# Altium schematic symbol library CAMERON.SchLib: 73 symbols
Pins are listed as number, name and electrical type; pins without a type are passive.

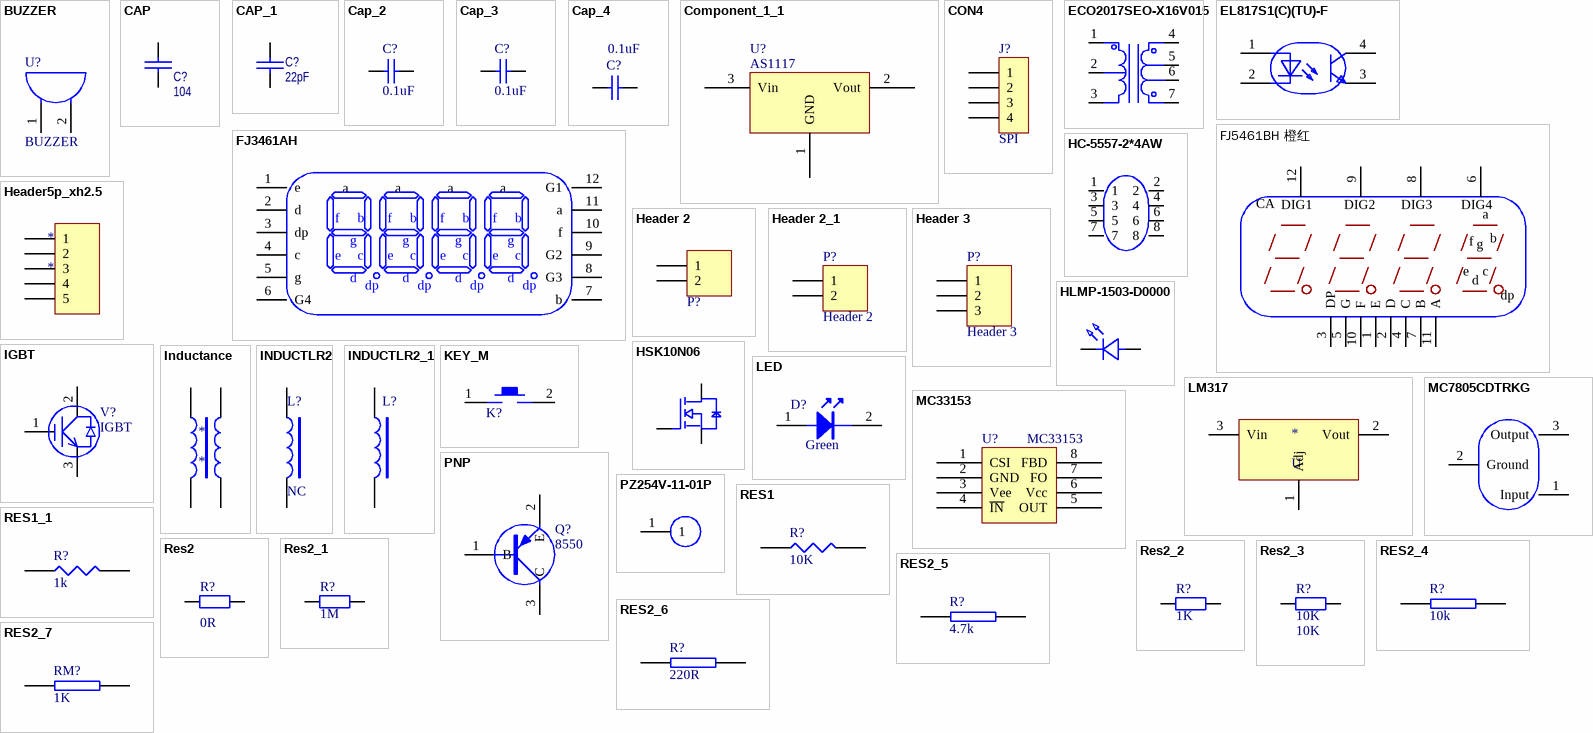
[diagram p0: symbols BUZZER to RES2_7]

## BUZZER
designator U?
footprint BUZZ-7.6/12 (工制单位)
pins: 1 A, 2 B
2 alternate drawings of the same symbol

## CAP
designator C?, comment 104
Capacitor
footprint 0805C
pins: 1, 2
2 alternate drawings of the same symbol

## CAP_1
designator C?, comment 22pF
Capacitor
footprint 0805C
pins: 1, 2
2 alternate drawings of the same symbol

## Cap_2
designator C?, comment value 0.1uF  (hidden comment: 104P)
Capacitor; Published: 8-Jun-2000; LatestRevisionDate: 17-Jul-2002; LatestRevisionNote: Re-released for DXP Platform.; PackageReference: RAD-0.3; Publisher: Altium Limited; PackageDescription: Radial Cap, Thru-Hole; 2 Leads; 0.3 in Pin Spacing
footprint 0805C
pins: 1, 2
2 alternate drawings of the same symbol

## Cap_3
designator C?, comment value 0.1uF  (hidden comment: Cap)
Capacitor; Published: 8-Jun-2000; LatestRevisionDate: 17-Jul-2002; LatestRevisionNote: Re-released for DXP Platform.; PackageReference: RAD-0.3; Publisher: Altium Limited; PackageDescription: Radial Cap, Thru-Hole; 2 Leads; 0.3 in Pin Spacing
footprint 0805C
pins: 1, 2
2 alternate drawings of the same symbol

## Cap_4
designator C?, comment value 0.1uF  (hidden comment: 470uF/35V)
Capacitor; Published: 8-Jun-2000; LatestRevisionDate: 17-Jul-2002; LatestRevisionNote: Re-released for DXP Platform.; PackageReference: RAD-0.3; Publisher: Altium Limited; PackageDescription: Radial Cap, Thru-Hole; 2 Leads; 0.3 in Pin Spacing
footprint 0805C
pins: 1, 2
2 alternate drawings of the same symbol

## Component_1_1
designator U?, comment AS1117
footprint 811733
footprint SOT_3
pins: 1 GND, 2 Vout, 3 Vin
2 alternate drawings of the same symbol

## CON4
designator J?, comment SPI
Connector
footprint XH-4P-2.5-4DIP (CON250P580W100D50S-4DIP)
pins: 1, 2, 3, 4
2 alternate drawings of the same symbol

## ECO2017SEO-X16V015
designator USB?  (value not drawn)
Manufacturer: TDK; Add into BOM: yes; Primary Winding: 三路; Secondary Winding: 两路; Symbol: ECO2017SEO-X16V015; Device: ECO2017SEO-X16V015; LCSC Part Name: ECO2017SEO-X16V015; Supplier Part: C2762803; Manufacturer Part: ECO2017SEO-X16V015; Supplier Footprint: 插件; JLCPCB Part Class: Extended Part; Datasheet: https://atta.szlcsc.com/upload/public/pdf/source/20210330/C2762803_0539F2D7383AC707985FED84B39ED265.pdf; Supplier: LCSC; Convert to PCB: yes; Primary Side Voltage: -; Secondary Side Voltage: -; Output Current: -; Power: -; Isolation Voltage: -
footprint XFMR-TH_ECO2017SEO-X16V015
pins: 1 9, 2 8, 3 10, 4 5, 5 4, 6 2, 7 1

## EL817S1(C)(TU)-F
designator U?  (value not drawn)
Manufacturer: EVERLIGHT(亿光); Add into BOM: yes; Input voltage type: DC; Output Type: 光电三极管; Forward Voltage: 1.2V; Output Current: 50mA; Isolation Voltage(rms): 5kV; Reverse Voltage: 6V; Load Voltage: 35V; Number of Outputs: 1; Collector-Emitter Saturation Voltage (Vce(sat)@Ic,IF): 100mV@1mA,20mA; Rise time: 18us@2mA,100Ω; Symbol: EL817S1(C)(TU)-F; Device: EL817S1(C)(TU)-F; LCSC Part Name: DC输入 隔离电压(rms):5000V; Supplier Part: C106900; Manufacturer Part: EL817S1(C)(TU)-F; Supplier Footprint: SMD-4P; JLCPCB Part Class: Basic Part; Datasheet: https://atta.szlcsc.com/upload/public/pdf/source/20181026/C323798_FBCE14484708FE0807B9A090D624C4F0.pdf; Supplier: LCSC; Convert to PCB: yes; Fall time: 18us@2mA,100Ω; Operating Temperature: -55℃~+110℃
footprint OPTO-SMD-4_L4.6-W6.5-P2.54-LS10.3-TL
pins: 1 AN, 2 CAT, 3 EM, 4 COL

## FJ3461AH
designator LED?  (value not drawn)
Manufacturer: 志浩; Add into BOM: yes; Number of Characters: 4位; Module Size: 30mmx14mmx7.2mm; Luminous Color: 红色; LED Polarity: 共阴极; Digit/Alpha Size(inch): 0.36; Symbol: FJ3461AH; Device: FJ3461AH; LCSC Part Name: 4位0.36英寸红色数码管 共阴极; Supplier Part: C10708; Manufacturer Part: FJ3461AH; Supplier Footprint: 插件; JLCPCB Part Class: Extended Part; Datasheet: https://atta.szlcsc.com/upload/public/pdf/source/20121231/1457706574766.pdf; Supplier: LCSC; Convert to PCB: yes; Display Type: -; Power Dissipation: -
footprint LED-SEG-TH_12P-L30.0-W14.0-P2.54-S10.16-BL
pins: 1 e, 2 d, 3 dp, 4 c, 5 g, 6 G4, 7 b, 8 G3, 9 G2, 10 f, 11 a, 12 G1

## FJ5461BH 橙红
designator LED?  (value not drawn)
Manufacturer: 志浩; Symbol: FJ5461BH-red-orange; Add into BOM: yes; Number of Characters: 4位; Luminous Color: 红色; LED Polarity: 共阳极; Digit/Alpha Size(inch): 0.56; Device: FJ5461BH 橙红; LCSC Part Name: 4位0.56英寸红色数码管 共阳极; Supplier Part: C10713; Manufacturer Part: FJ5461BH 橙红; Supplier Footprint: 插件; JLCPCB Part Class: Extended Part; Datasheet: https://atta.szlcsc.com/upload/public/pdf/source/20121231/1457706574845.pdf; Supplier: LCSC; Convert to PCB: yes
footprint LED-SEG-TH_FJ5461AH
pins: 1 E, 2 D, 3 DP, 4 C, 5 G, 6 DIG4, 7 B, 8 DIG3, 9 DIG2, 10 F, 11 A, 12 DIG1
text: CA; a; f; b; g; e; c; d; dp

## HC-5557-2*4AW
designator H?  (value not drawn)
Manufacturer: HCTL(华灿天禄); Add into BOM: yes; Pins Structure: 2x4P; Pitch: 4.2mm; Number of PINs Per Row: 4; Current Rating (Max): 9A; Symbol: HC-5557-2*4AW; Device: HC-5557-2*4AW; LCSC Part Name: 2x4P 间距:4.2mm 弯插; Supplier Part: C2845789; Manufacturer Part: HC-5557-2*4AW; Supplier Footprint: 弯插,P=4.2mm; JLCPCB Part Class: Extended Part; Datasheet: https://atta.szlcsc.com/upload/public/pdf/source/20230620/3AA4118B2C2E81189EA8FE45B17A7E9B.pdf; Supplier: LCSC; Convert to PCB: yes; Mounting Style: 弯插; Reference Series: -; Number of Pins: 8P; Number of Rows: 2; Row Spacing: 4.2mm; Contact Material: 黄铜; Contact Plating: 锡; Operating Temperature Range: -25℃~+85℃
footprint CONN-TH_8P-P4.20_5557-2X4AW
pins: 1, 2, 3, 4, 5, 6, 7, 8

## Header5p_xh2.5
designator *
pins: 1, 2, 3, 4, 5

## Header 2
designator P?, comment VREF_SEL  (value not drawn)
Header, 2-Pin; LatestRevisionDate: 17-Jul-2002; LatestRevisionNote: Re-released for DXP Platform.; Publisher: Altium Limited
footprint HDR1X2
footprint XH-2P-2.5
pins: 1, 2
2 alternate drawings of the same symbol

## Header 2_1
designator P?, comment Header 2
Header, 2-Pin; LatestRevisionDate: 17-Jul-2002; LatestRevisionNote: Re-released for DXP Platform.; Publisher: Altium Limited
footprint XH-2P-2.5
pins: 1, 2
2 alternate drawings of the same symbol

## Header 3
designator P?
Header, 3-Pin; LatestRevisionDate: 17-Jul-2002; LatestRevisionNote: Re-released for DXP Platform.; Publisher: Altium Limited
footprint XH-3P-2.5
footprint XH-3P-2.5-3DIP
pins: 1, 2, 3
2 alternate drawings of the same symbol

## HLMP-1503-D0000
designator U?  (value not drawn)
Manufacturer: Broadcom/AVAGO(安华高); Add into BOM: yes; Symbol: HLMP-1503-D0000; Device: HLMP-1503-D0000; LCSC Part Name: HLMP-1503-D0000; Supplier Part: C6795839; Manufacturer Part: HLMP-1503-D0000; Supplier Footprint: 插件; JLCPCB Part Class: Extended Part; Datasheet: https://atta.szlcsc.com/upload/public/pdf/source/20230602/8B2B82820B3183ED281EA59E7A8BD22E.pdf; Supplier: LCSC; Convert to PCB: yes
footprint LED-TH_BD3.0-P2.54-RD
pins: 1 K, 2 A

## HSK10N06
designator U?  (value not drawn)
Manufacturer: HUASHUO(华朔); Add into BOM: yes; Drain Source Voltage (Vdss): 60V; Continuous Drain Current (Id): 10A; Power Dissipation (Pd): 2W; Drain Source On Resistance (RDS(on)@Vgs,Id): 40mΩ@10V,10A; Gate Threshold Voltage (Vgs(th)@Id): 3V@250uA; Total Gate Charge (Qg@Vgs): 53nC@10V; Input Capacitance (Ciss@Vds): 3.427nF@25V; Reverse Transfer Capacitance (Crss@Vds): 226pF@25V; Symbol: HSK10N06; Device: HSK10N06; LCSC Part Name: 1个N沟道 耐压:60V 电流:10A; Supplier Part: C5128195; Manufacturer Part: HSK10N06; Supplier Footprint: SOT-89; JLCPCB Part Class: 扩展库; Datasheet: https://atta.szlcsc.com/upload/public/pdf/source/20220811/21CEAC6F9E2851314F5CEE4EFC219FCA.pdf; Supplier: LCSC; Convert to PCB: yes; Type: 1个N沟道; Operating Temperature: -55℃~+150℃@(Tj)
footprint SOT-89-3_L4.5-W2.5-P1.50-LS4.2-TR
pins: 1 G, 2 D, 3 S

## IGBT
designator V?
footprint TO-3P
pins: 1 B, 2 C, 3 E
2 alternate drawings of the same symbol

## Inductance
designator *
footprint L-1206C
pins: 1, 2, 3, 4

## INDUCTLR2
designator L?, comment NC
footprint L100
pins: 1, 2
2 alternate drawings of the same symbol

## INDUCTLR2_1
designator L?
footprint L-1206C
pins: 1, 2
2 alternate drawings of the same symbol

## KEY_M
designator K?  (value not drawn)
footprint KEY_M
footprint KEY_2
footprint Key2 (6*6(6.5*4.5))
pins: 1, 2
2 alternate drawings of the same symbol

## LED
designator D?, comment Green
footprint LED-0603 (20100324  贴片0603LED   LSB)
footprint LED-0805 (LED, SMD, 0805)
pins: 1, 2
2 alternate drawings of the same symbol

## LM317
designator *, comment U
footprint SOT_3
pins: 1 Adj, 2 Vout, 3 Vin

## MC7805CDTRKG
designator U?  (value not drawn)
Manufacturer: onsemi(安森美); Add into BOM: yes; Output Type: 固定; Maximum Input Voltage: 35V; Output Voltage: 5V; MAX Output Current: 1A; Power Supply Rejection Ratio (PSRR): 83dB@(120Hz); Dropout Voltage: 2V@(1A); standby current: 6.5mA; Output Polarity: 正极; Number of Outputs: 1; Symbol: MC7805CDTRKG; Device: MC7805CDTRKG; LCSC Part Name: MC7805CDTRKG; Supplier Part: C54285; Manufacturer Part: MC7805CDTRKG; Supplier Footprint: TO-252-2(DPAK); JLCPCB Part Class: Extended Part; Datasheet: https://atta.szlcsc.com/upload/public/pdf/source/20181108/C327508_B78150FF97C8C38061229236786A5884.pdf; Supplier: LCSC; Convert to PCB: yes; Operating Temperature: 0℃~+125℃
footprint TO-252-2_L6.6-W6.1-P4.58-LS9.9-TL
pins: 1 Input, 2 Ground, 3 Output

## MC33153
designator U?
footprint MC33153(SOIC-8)
footprint SOP-8
pins: 1 CSI, 2 GND, 3 Vee, 4 ~{IN}, 5 OUT, 6 Vcc, 7 FO, 8 FBD
2 alternate drawings of the same symbol

## PNP
designator Q?, comment 8550
footprint SOT-23 (SOT-23-3)
pins: 1 B, 2 E, 3 C
2 alternate drawings of the same symbol

## PZ254V-11-01P
designator H?  (value not drawn)
Manufacturer: XFCN(兴飞); Add into BOM: yes; Pin Structure: 1x1P; Pitch: 2.54mm; Circluar Pins/Square Pins: 方针; Symbol: PZ254V-11-01P; Device: PZ254V-11-01P; LCSC Part Name: 间距:2.54mm 1x1P 直插 方针; Supplier Part: C492400; Manufacturer Part: PZ254V-11-01P; Supplier Footprint: 插件,P=2.54mm; JLCPCB Part Class: Extended Part; Datasheet: https://atta.szlcsc.com/upload/public/pdf/source/20200309/C492400_46876A5B545F5AE6B8D4A09C46E276E8.pdf; Supplier: LCSC; Convert to PCB: yes; Row Spacing: -; Mounting Type: 直插; Number of Rows: 单排; Number of Pins: 1P; Current Rating (Max): -; Voltage Rating (Max): -; Length of Mating Pin: 6mm; Insulation Height: 2.5mm; Length of End Connection Pin: 3mm; Contact Material: 黄铜; Contact Plating: -; Operating Temperature Range: -40℃~+105℃; Color: 黑色
footprint xh254 1p (Footprint not found)
pins: 1

## RES1
designator R?, comment 10K
footprint 0603
footprint 0805
pins: 1, 2
2 alternate drawings of the same symbol

## RES1_1
designator R?, comment 1k
footprint 0805
pins: 1, 2
2 alternate drawings of the same symbol

## Res2
designator R?, comment 0R
Resistor; Published: 8-Jun-2000; LatestRevisionDate: 17-Jul-2002; LatestRevisionNote: Re-released for DXP Platform.; PackageReference: AXIAL-0.4; Publisher: Altium Limited; PackageDescription: Axial Device, Thru-Hole; 2 Leads; 0.4 in Pin Spacing; Value: 0R
footprint 0805 (3.9mm,长)
footprint AXIAL-0.4
pins: 1, 2
2 alternate drawings of the same symbol

## Res2_1
designator R?, comment value 1M  (hidden comment: Res2)
Resistor; Published: 8-Jun-2000; LatestRevisionDate: 17-Jul-2002; LatestRevisionNote: Re-released for DXP Platform.; PackageReference: AXIAL-0.4; Publisher: Altium Limited; PackageDescription: Axial Device, Thru-Hole; 2 Leads; 0.4 in Pin Spacing
footprint 0805
pins: 1, 2
2 alternate drawings of the same symbol

## Res2_2
designator R?, comment value 1K  (hidden comment: Res2)
Resistor; Published: 8-Jun-2000; LatestRevisionDate: 17-Jul-2002; LatestRevisionNote: Re-released for DXP Platform.; PackageReference: AXIAL-0.4; Publisher: Altium Limited; PackageDescription: Axial Device, Thru-Hole; 2 Leads; 0.4 in Pin Spacing
footprint 0805
pins: 1, 2
2 alternate drawings of the same symbol

## Res2_3
designator R?, comment 10K
Resistor; Published: 8-Jun-2000; LatestRevisionDate: 17-Jul-2002; LatestRevisionNote: Re-released for DXP Platform.; PackageReference: AXIAL-0.4; Publisher: Altium Limited; PackageDescription: Axial Device, Thru-Hole; 2 Leads; 0.4 in Pin Spacing; Value: 10K
footprint 0805
pins: 1, 2
2 alternate drawings of the same symbol

## RES2_4
designator R?, comment 10k
footprint 0805
pins: 1, 2
2 alternate drawings of the same symbol

## RES2_5
designator R?, comment 4.7k
footprint 0805
pins: 1, 2
2 alternate drawings of the same symbol

## RES2_6
designator R?, comment 220R
footprint 0805
pins: 1, 2
2 alternate drawings of the same symbol

## RES2_7
designator RM?, comment 1K
footprint 0805
footprint 0805
pins: 1, 2
2 alternate drawings of the same symbol

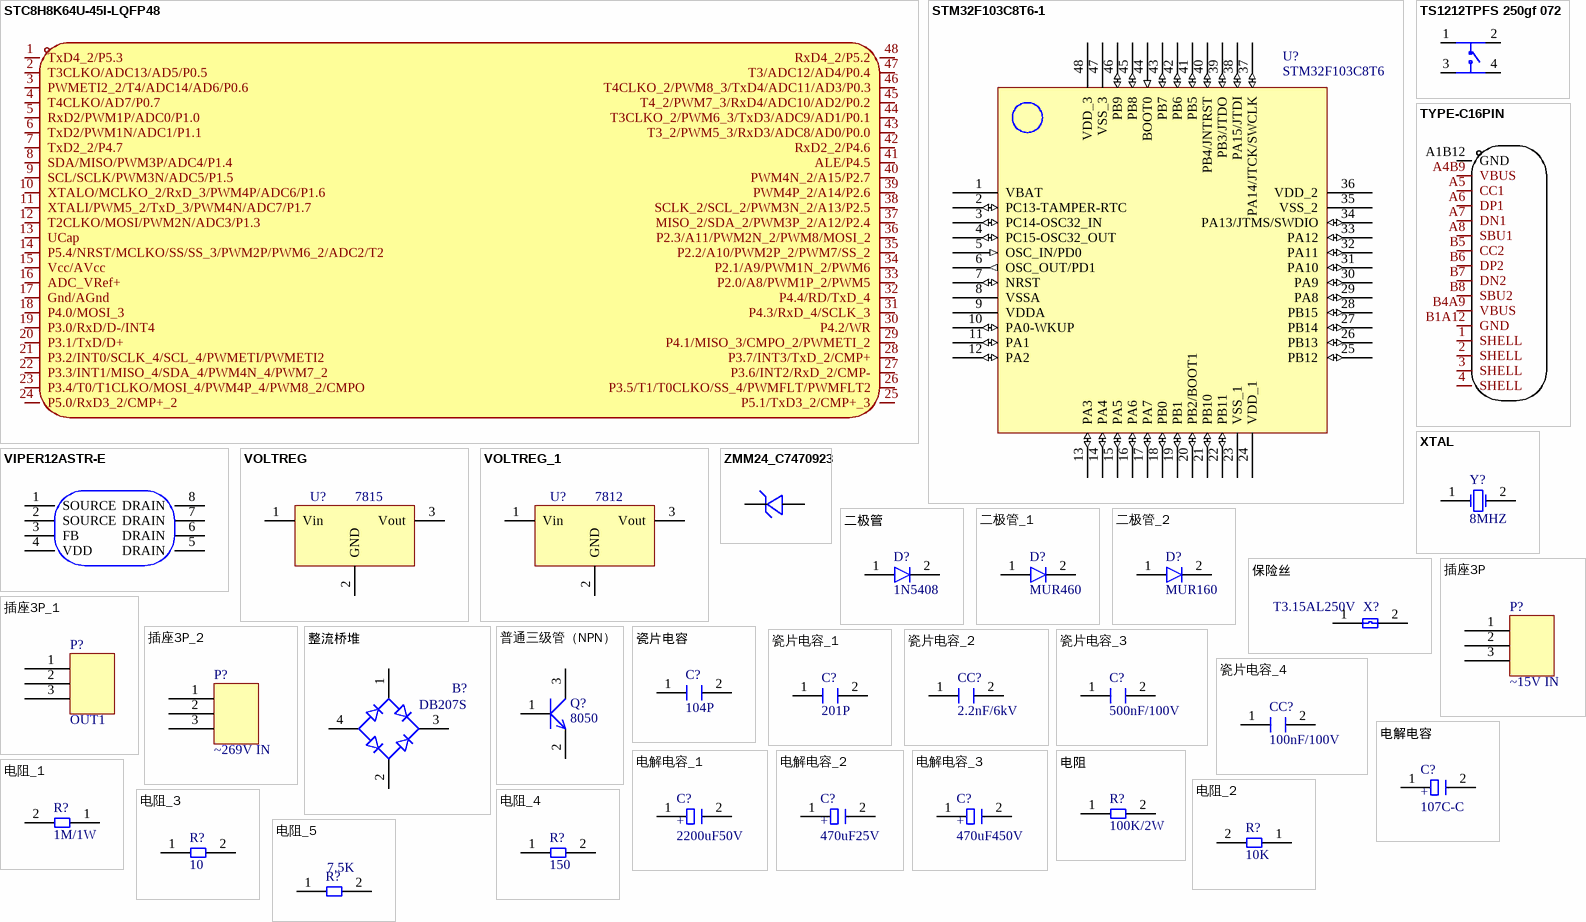
[diagram p1: symbols STC8H8K64U-45I-LQFP48 to 电阻_5]

## STC8H8K64U-45I-LQFP48
designator U?  (value not drawn)
Manufacturer: STC(宏晶); Add into BOM: yes; CPU Core: 51系列; Program Storage Size: 64KB; Program Memory Type: FLASH; Symbol: STC8H8K64U-45I-LQFP48; Device: STC8H8K64U-45I-LQFP48; LCSC Part Name: 宽电压/高速/高可靠/低功耗/强抗静电/较强抗干扰的新一代 8051 单片机; Supplier Part: C3013145; Manufacturer Part: STC8H8K64U-45I-LQFP48; Supplier Footprint: LQFP-48(7x7); JLCPCB Part Class: Extended Part; Datasheet: https://atta.szlcsc.com/upload/public/pdf/source/20230914/FE7F6A67FEB4E2D9A560A799C5B97078.pdf; Supplier: LCSC; Convert to PCB: yes; GPIO Ports Number: -; Operating Voltage Range: -; CPU Maximum Speed: -; ADC (Bit): -; DAC (Bit): -; PWM (Bit): -; Universal Serial Bus: -; Internal Comparator: -; communication protocol: -; Watchdog: -; Real-Time Clock: -; Infrared Data Association: -; Low-Voltage Detect: -; CCP Capture/Compare: -; Secure Digital Input and Output: -; Direct Memory Access: -; Internal Oscillator: -
footprint LQFP-48_L7.0-W7.0-P0.50-LS9.0-BL
pins: 1 TxD4_2/P5.3, 2 T3CLKO/ADC13/AD5/P0.5, 3 PWMETI2_2/T4/ADC14/AD6/P0.6, 4 T4CLKO/AD7/P0.7, 5 RxD2/PWM1P/ADC0/P1.0, 6 TxD2/PWM1N/ADC1/P1.1, 7 TxD2_2/P4.7, 8 SDA/MISO/PWM3P/ADC4/P1.4, 9 SCL/SCLK/PWM3N/ADC5/P1.5, 10 XTALO/MCLKO_2/RxD_3/PWM4P/ADC6/P1.6, 11 XTALI/PWM5_2/TxD_3/PWM4N/ADC7/P1.7, 12 T2CLKO/MOSI/PWM2N/ADC3/P1.3, 13 UCap, 14 P5.4/NRST/MCLKO/SS/SS_3/PWM2P/PWM6_2/ADC2/T2, 15 Vcc/AVcc, 16 ADC_VRef+, 17 Gnd/AGnd, 18 P4.0/MOSI_3, 19 P3.0/RxD/D-/INT4, 20 P3.1/TxD/D+, 21 P3.2/INT0/SCLK_4/SCL_4/PWMETI/PWMETI2, 22 P3.3/INT1/MISO_4/SDA_4/PWM4N_4/PWM7_2, 23 P3.4/T0/T1CLKO/MOSI_4/PWM4P_4/PWM8_2/CMPO, 24 P5.0/RxD3_2/CMP+_2, 25 P5.1/TxD3_2/CMP+_3, 26 P3.5/T1/T0CLKO/SS_4/PWMFLT/PWMFLT2, 27 P3.6/INT2/RxD_2/CMP-, 28 P3.7/INT3/TxD_2/CMP+, 29 P4.1/MISO_3/CMPO_2/PWMETI_2, 30 P4.2/WR, 31 P4.3/RxD_4/SCLK_3, 32 P4.4/RD/TxD_4, 33 P2.0/A8/PWM1P_2/PWM5, 34 P2.1/A9/PWM1N_2/PWM6, 35 P2.2/A10/PWM2P_2/PWM7/SS_2, 36 P2.3/A11/PWM2N_2/PWM8/MOSI_2, 37 MISO_2/SDA_2/PWM3P_2/A12/P2.4, 38 SCLK_2/SCL_2/PWM3N_2/A13/P2.5, 39 PWM4P_2/A14/P2.6, 40 PWM4N_2/A15/P2.7, 41 ALE/P4.5, 42 RxD2_2/P4.6, 43 T3_2/PWM5_3/RxD3/ADC8/AD0/P0.0, 44 T3CLKO_2/PWM6_3/TxD3/ADC9/AD1/P0.1, 45 T4_2/PWM7_3/RxD4/ADC10/AD2/P0.2, 46 T4CLKO_2/PWM8_3/TxD4/ADC11/AD3/P0.3, 47 T3/ADC12/AD4/P0.4, 48 RxD4_2/P5.2

## STM32F103C8T6-1
designator U?, comment STM32F103C8T6
footprint LQFP-48
pins: 1 VBAT (power), 2 PC13-TAMPER-RTC (io), 3 PC14-OSC32_IN (io), 4 PC15-OSC32_OUT (io), 5 OSC_IN/PD0 (in), 6 OSC_OUT/PD1 (out), 7 NRST (io), 8 VSSA (power), 9 VDDA (power), 10 PA0-WKUP (io), 11 PA1 (io), 12 PA2 (io), 13 PA3 (io), 14 PA4 (io), 15 PA5 (io), 16 PA6 (io), 17 PA7 (io), 18 PB0 (io), 19 PB1 (io), 20 PB2/BOOT1 (io), 21 PB10 (io), 22 PB11 (io), 23 VSS_1 (power), 24 VDD_1 (power), 25 PB12 (io), 26 PB13 (io), 27 PB14 (io), 28 PB15 (io), 29 PA8 (io), 30 PA9 (io), 31 PA10 (io), 32 PA11 (io), 33 PA12 (io), 34 PA13/JTMS/SWDIO (io), 35 VSS_2 (power), 36 VDD_2 (power), 37 PA14/JTCK/SWCLK (io), 38 PA15/JTDI (io), 39 PB3/JTDO (io), 40 PB4/JNTRST (io), 41 PB5 (io), 42 PB6 (io), 43 PB7 (io), 44 BOOT0 (in), 45 PB8 (io), 46 PB9 (io), 47 VSS_3 (power), 48 VDD_3 (power)
2 alternate drawings of the same symbol

## TS1212TPFS 250gf 072
designator SW?  (value not drawn)
Manufacturer: SHOU HAN(首韩); Add into BOM: yes; Circuit: 单刀单掷; Actuator Style: 圆形按钮; Operating Force: 2.5N; Switch Length: 12mm; Switch Height: 1.2mm; Strike Gundam: 不带; Contact Current: 50mA; Voltage Rating (DC): 12V; Insulation Resistance: 100MΩ; Actuator/Cap Color: 黑色; Pin Style: 鸥翼型; Mechanical Life: 10万次; Symbol: TS1212TPFS 250GF 072; Device: TS1212TPFS 250gf 072; LCSC Part Name: 12*12*1.2mm 立贴 轻触开关; Supplier Part: C2858285; Manufacturer Part: TS1212TPFS 250gf 072; Supplier Footprint: SMD-4P,12x12mm; JLCPCB Part Class: Extended Part; Datasheet: https://atta.szlcsc.com/upload/public/pdf/source/20240530/61FBD9981DC96E206A7130E740881932.pdf; Supplier: LCSC; Convert to PCB: yes; Mounting Style: 立贴; Switch Width: 12mm; Operating Temperature: -20℃~+80℃
footprint KEY-SMD_4P-L12.0-W12.0-P5.00-LS15.0
pins: 1, 2, 3, 4

## TYPE-C16PIN
designator USB?  (value not drawn)
Manufacturer: SHOU HAN(首韩); Add into BOM: yes; Connector Type: Type-C; Gender: 母; Number of Ports: 1; Number of Contacts: 16P; Current Rating - Power (Max): 3A; Name: TYPE-C16PIN; Symbol: TYPE-C16PIN; Device: TYPE-C16PIN; LCSC Part Name: Type-C 母 卧贴; Supplier Part: C393939; Manufacturer Part: TYPE-C16PIN; Supplier Footprint: SMD; JLCPCB Part Class: Extended Part; Datasheet: https://atta.szlcsc.com/upload/public/pdf/source/20190521/C393939_7B9043D4CF1026AF443AB60D91FBCD5C.pdf; Supplier: LCSC; Convert to PCB: yes; Standard: -; Mounting Style: 卧贴; Operating Temperature Range: -40℃~+85℃
footprint USB-C-SMD_TYPE-C16PIN
3D model USB-C-SMD_TYPE-C16PIN
pins: 1 SHELL, 2 SHELL, 3 SHELL, 4 SHELL, A1B12 GND, A4B9 VBUS, A5 CC1, A6 DP1, A7 DN1, A8 SBU1, B1A12 GND, B4A9 VBUS, B5 CC2, B6 DP2, B7 DN2, B8 SBU2

## VIPER12ASTR-E
designator U?  (value not drawn)
Manufacturer: ST(意法半导体); Add into BOM: yes; Output Isolation: 非隔离; Supply Voltage: 9V~38V; Switching Frequency: 60kHz; Breakdown Voltage: 730V; Symbol: VIPER12ASTR-E; Device: VIPER12ASTR-E; LCSC Part Name: 低功耗离线开关模式电源主开关; Supplier Part: C7522; Manufacturer Part: VIPER12ASTR-E; Supplier Footprint: SOIC-8; JLCPCB Part Class: Extended Part; Datasheet: https://atta.szlcsc.com/upload/public/pdf/source/20140724/1457707166995.pdf; Supplier: LCSC; Convert to PCB: yes; Operating Temperature: -40℃~+150℃
footprint SOIC-8_L5.0-W4.0-P1.27-LS6.0-BL
pins: 1 SOURCE, 2 SOURCE, 3 FB, 4 VDD, 5 DRAIN, 6 DRAIN, 7 DRAIN, 8 DRAIN

## VOLTREG
designator U?, comment 7815
footprint TO220H
footprint TO-126（带散热器）小
pins: 1 Vin, 2 GND, 3 Vout
2 alternate drawings of the same symbol

## VOLTREG_1
designator U?, comment 7812
footprint TO220H
footprint TO-126（带散热器）小
pins: 1 Vin, 2 GND, 3 Vout
2 alternate drawings of the same symbol

## XTAL
designator Y?, comment 8MHZ
Crystal Oscillator; Published: *; LatestRevisionDate: *; LatestRevisionNote: *; PackageReference: *; Publisher: *
footprint XTAL_24M
footprint XTAL2
pins: 1 OSC1, 2 OSC2
2 alternate drawings of the same symbol

## ZMM24_C7470923
designator U?, comment ZMM24  (value not drawn)
Manufacturer: HXY MOSFET(华轩阳电子); Symbol: ZMM24_C7470923; Add into BOM: yes; Diode Configuration: 独立式; Zener Voltage (Nom): 24V; Reverse Leakage Current (Ir): 100nA@18V; Zener Voltage (Range): 22.8V~25.6V; Power Dissipation: 500mW; Zener Impedance (Zzt): 80Ω; Device: ZMM24_C7470923; LCSC Part Name: ZMM24; Supplier Part: C7470923; Manufacturer Part: ZMM24; Supplier Footprint: LL-34; JLCPCB Part Class: Extended Part; Datasheet: https://atta.szlcsc.com/upload/public/pdf/source/20230915/581C4D7CC1FE908B5D3501977E79B43B.pdf; Supplier: LCSC; Convert to PCB: yes
footprint LL-34_L3.5-W1.5-RD
pins: 1 C, 2 A

## 二极管
designator D?, comment 1N5408
footprint 二极管（1N5404）18MM
footprint 贴片二极管
footprint 二极管（小10mm）
footprint DO-201AD
pins: 1, 2
2 alternate drawings of the same symbol

## 二极管_1
designator D?, comment MUR460
footprint 二极管（1N5404）18MM
footprint 贴片二极管
footprint 二极管（小10mm）
footprint DO-201AD
pins: 1, 2
2 alternate drawings of the same symbol

## 二极管_2
designator D?, comment MUR160
footprint 二极管（大10mm）
footprint 贴片二极管
footprint DO-41
footprint DO-41
pins: 1, 2
2 alternate drawings of the same symbol

## 保险丝
designator X?, comment T3.15AL250V
footprint 保险管座
footprint FUSE (保险管座)
pins: 1, 2
2 alternate drawings of the same symbol

## 插座3P
designator P?, comment ~15V IN
footprint 低压电源插座3P（4mm）
footprint 大插座3P（2.54mm）
footprint 低压电源插座3P（4mm）
footprint 低压电源插座大3P（4mm）
footprint SIP-4-4.0
pins: 1, 2, 3
2 alternate drawings of the same symbol

## 插座3P_1
designator P?, comment OUT1
footprint 低压电源插座3P（4mm）
footprint 大插座3P（2.54mm）
footprint 低压电源插座3P（4mm）
footprint 低压电源插座大3P（4mm）
footprint VH3.96-3Pin
pins: 1, 2, 3
2 alternate drawings of the same symbol

## 插座3P_2
designator P?, comment ~269V IN
footprint 低压电源插座3P（4mm）
footprint 大插座3P（2.54mm）
footprint 低压电源插座3P（4mm）
footprint 低压电源插座大3P（4mm）
footprint VH3.96-3Pin
pins: 1, 2, 3
2 alternate drawings of the same symbol

## 整流桥堆
designator B?, comment DB207S
footprint 贴片整流桥堆
footprint DBS
pins: 1, 2, 3, 4
2 alternate drawings of the same symbol

## 普通三级管（NPN）
designator Q?, comment 8050
footprint SOT23-3
footprint SOT-23 - S8550 (s8550,s8050)
pins: 1 B, 2 E, 3 C
2 alternate drawings of the same symbol

## 瓷片电容
designator C?, comment 104P
footprint 0805C
footprint 涤纶电容（5MM）
pins: 1, 2
2 alternate drawings of the same symbol

## 瓷片电容_1
designator C?, comment 201P
footprint 0805C
footprint 涤纶电容（5MM）
pins: 1, 2
2 alternate drawings of the same symbol

## 瓷片电容_2
designator CC?, comment 2.2nF/6kV
footprint 高压涤纶电容（15mm）
footprint 涤纶电容（5MM）
footprint C104P (涤纶电容)
pins: 1, 2
2 alternate drawings of the same symbol

## 瓷片电容_3
designator C?, comment 500nF/100V
footprint 高压涤纶电容（15mm）
footprint 涤纶电容（5MM）
footprint C104P (涤纶电容)
pins: 1, 2
2 alternate drawings of the same symbol

## 瓷片电容_4
designator CC?, comment 100nF/100V
footprint 高压涤纶电容（15mm）
footprint 涤纶电容（5MM）
footprint C104P (涤纶电容)
pins: 1, 2
2 alternate drawings of the same symbol

## 电解电容
designator C?, comment 107C-C
footprint 贴片钽电容6032-28（C）
footprint 电解电容（12mm）
footprint 电解电容（30mm）
footprint CAP-TANTALUM-C (Tantalum Capacitor Case C, SMD)
pins: 1, 2
2 alternate drawings of the same symbol
text: +

## 电解电容_1
designator C?, comment 2200uF50V
footprint RB7.6-15
footprint 电解电容（12mm）
footprint 电解电容（30mm）
pins: 1, 2
2 alternate drawings of the same symbol
text: +

## 电解电容_2
designator C?, comment 470uF25V
footprint 贴片钽电容6032-28（C）
footprint CD10
footprint 电解电容（30mm）
pins: 1, 2
2 alternate drawings of the same symbol
text: +

## 电解电容_3
designator C?, comment 470uF450V
footprint 电解电容（35mm）
footprint 电解电容（12mm）
footprint 电解电容（30mm）
footprint EC-10-35
pins: 1, 2
2 alternate drawings of the same symbol
text: +

## 电阻
designator R?, comment 100K/2W
footprint 普通电阻（15MM）1W
footprint 普通电阻（10mm）
footprint AXIAL-0.8
pins: 1, 2
2 alternate drawings of the same symbol

## 电阻_1
designator R?, comment 1M/1W
footprint 普通电阻（15MM）1W
footprint 普通电阻（10mm）
footprint AXIAL0.7
pins: 1, 2
2 alternate drawings of the same symbol

## 电阻_2
designator R?, comment 10K
footprint 贴片电阻0805
footprint 普通电阻（10mm）
footprint AXIAL0.7
footprint 0805
pins: 1, 2
2 alternate drawings of the same symbol

## 电阻_3
designator R?, comment 10
footprint 1206
footprint 普通电阻（10mm）
pins: 1, 2
2 alternate drawings of the same symbol

## 电阻_4
designator R?, comment 150
footprint 1206
footprint 普通电阻（10mm）
pins: 1, 2
2 alternate drawings of the same symbol

## 电阻_5
designator R?, comment 7.5K
footprint 0805
footprint 普通电阻（10mm）
pins: 1, 2
2 alternate drawings of the same symbol